# Altium schematic symbol library C_0.047uF.SchLib: 1 symbol
Pins are listed as number, name and electrical type; pins without a type are passive.

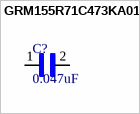
[diagram p0: symbol GRM155R71C473KA01J]

## GRM155R71C473KA01J
designator C?, comment 0.047uF
SMD Capacitor X7R(EIA) with Capacitance: 47000pF Tol. 10%. Rated Voltage: 16Vdc; MF: muRata; MP: GRM155R71C473KA01J; Package: 0402; Price: None; Value: 0.047uF; Availability: *; MF number: GRM155R71C473KA01J
footprint CAPC1005X55N
pins: 1, 2